# Altium schematic symbol library NTK3139PT5G.SchLib: 1 symbol
Pins are listed as number, name and electrical type; pins without a type are passive.

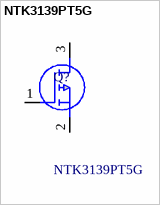
[diagram p0: symbol NTK3139PT5G]

## NTK3139PT5G
designator Q?
P-channel Switch with Low RDS(on); 44% Smaller Footprint and 38% Thinner than SC-89; Low Threshold Levels, 1.5 V RDS(on) Rating; RoHS Compliant; Operated at Low Logic Level Gate Drive; Manufacturer_Name: onsemi; Geometry.Height: 0.55mm; Manufacturer_Part_Number: NTK3139PT5G; Mouser Part Number: 863-NTK3139PT5G; Mouser Price/Stock: https://www.mouser.co.uk/ProductDetail/onsemi/NTK3139PT5G?qs=g97OBWmz8%2FXwvn%2FcSPxudQ%3D%3D; Arrow Part Number: NTK3139PT5G; Arrow Price/Stock: https://www.arrow.com/en/products/ntk3139pt5g/on-semiconductor?region=nac; Datasheet Link: https://www.onsemi.com/pub/Collateral/NTK3139P-D.PDF
footprint SOTFL40P120X55-3N
pins: 1 G, 2 S, 3 D